# Altium footprint library ESC.PcbLib: 14 footprints
Each footprint in its own frame and in the unit in brackets; x right, y up, seen from the top. Pads: shape width x height; smd on the part's side, far side on the other; paste and mask are expansions set on the pad; w line width, h text height; cw(c..) or ccw(c..) is an arc to the next point about the centre after c.
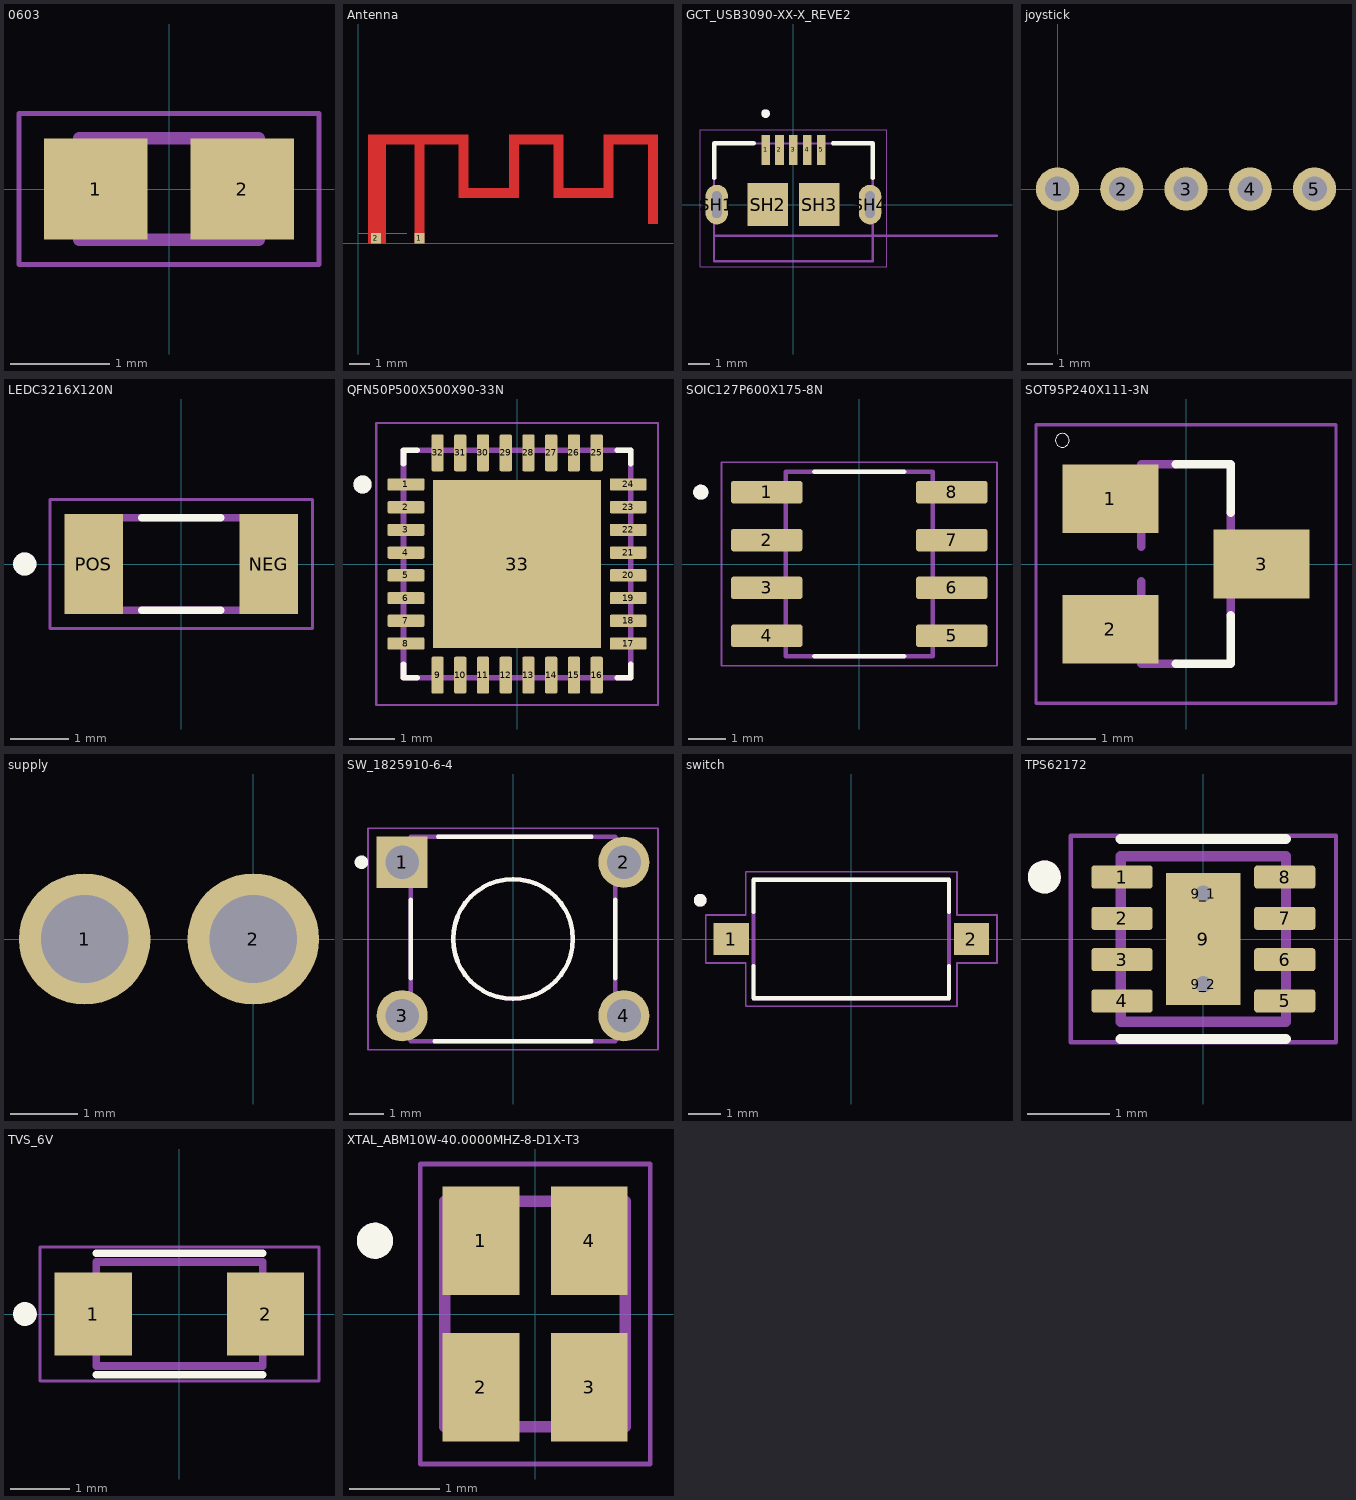
[diagram p0: the footprints below, top view; thin cyan lines are the x and y axes]

## 0603 [mm]
pads (2):
  rect 1.04x1.02 smd: 1(-0.735,0) 2(0.735,0)
Mechanical 13:
  lines w0.127: -0.9,-0.51 -0.9,0.51 0.9,0.51 0.9,-0.51 -0.9,-0.51
Mechanical 15:
  lines w0.05: -1.508,-0.761 -1.508,0.761 1.508,0.761 1.508,-0.761 -1.508,-0.761
3D body "step_temp.STEP": height 0.55, standoff 0, extent -0.8,-0.4 0.8,0.4

## Antenna [mm]
pads (2):
  rect 0.5x0.5 smd paste-2539.97 mask+0.102: 1(3.048,0.254) 2(0.889,0.254)
Top Layer:
  rectangle: 7.5,4.9 10.2,5.4
  rectangle: 0.5,4.9 5.5,5.4
  rectangle: 14.4,0.96 14.9,5.08
  rectangle: 12.2,4.9 14.9,5.4
  rectangle: 12.2,2.26 12.7,5.08
  rectangle: 10.16,2.26 12.446,2.76
  rectangle: 9.7,2.26 10.2,5.08
  rectangle: 7.5,2.26 8,4.953
  rectangle: 5,2.26 5.5,5.08
  rectangle: 2.8,0 3.3,4.953
  rectangle: 0.5,0 1.4,5.08
  rectangle: 5.461,2.26 7.62,2.76
Mechanical 1:
  lines w0.051: 0,0.5 2.413,0.5
  text "gnd" at -0.432,0.669 h0.25

## GCT_USB3090-XX-X_REVE2 [mm]
height 2.71
pads (9):
  rect 0.4x1.4 smd: 1(-1.3,2.55) 2(-0.65,2.55) 3(0,2.55) 4(0.65,2.55) 5(1.3,2.55)
  oval 1.05x1.85 hole 0.45 slot 1.25 at 90 deg: SH1(-3.575,0) SH4(3.575,0)
  rect 1.9x2 smd: SH2(-1.2,0) SH3(1.2,0)
Top Overlay:
  circle w0.2: c-1.3,4.25 r0.1
  lines w0.2: -3.7,1.245 -3.7,2.86 -1.85,2.86 ; 1.85,2.86 3.7,2.86 3.7,1.245
Mechanical 13:
  circle w0.2: c-1.3,4.25 r0.1
  lines w0.1: 9.5,-1.45 -3.7,-1.45 ; -3.7,-1.45 -3.7,2.86 3.7,2.86 3.7,-2.64 -3.7,-2.64 -3.7,-1.45
  text "PCB Edge" at 5.095,-1.04 h0.67
Mechanical 15:
  lines w0.05: -4.35,-2.89 4.35,-2.89 4.35,3.5 -4.35,3.5 -4.35,-2.89
3D body "step_temp.STEP": height 2.71, standoff -1, extent -3.9,-2.64 3.9,2.86

## joystick [mm]
pads (5):
  round 1.7 hole 1: 1(0,0) 2(2.54,0) 3(5.08,0) 4(7.62,0) 5(10.16,0)

## LEDC3216X120N [mm]
height 1.2
pads (2):
  rect 1.01x1.73 smd: NEG(1.51,0) POS(-1.51,0)
Top Overlay:
  circle w0.2: c-2.7,0 r0.1
  lines w0.127: -0.685,-0.8 0.685,-0.8 ; -0.685,0.8 0.685,0.8
Mechanical 13:
  circle w0.2: c-2.7,0 r0.1
  lines w0.127: -1.6,-0.8 -1.6,0.8 1.6,0.8 1.6,-0.8 -1.6,-0.8
Mechanical 15:
  lines w0.05: -2.265,-1.115 -2.265,1.115 2.265,1.115 2.265,-1.115 -2.265,-1.115
3D body "step_temp.STEP": height 1.2, standoff 0, extent -1.6,-0.8 1.6,0.8

## QFN50P500X500X90-33N [mm]
height 0.9
pads (33):
  rrect25% 0.81x0.27 smd mask+0: 1(-2.445,1.75) 2(-2.445,1.25) 3(-2.445,0.75) 4(-2.445,0.25) 5(-2.445,-0.25) 6(-2.445,-0.75) 7(-2.445,-1.25) 8(-2.445,-1.75) 17(2.445,-1.75) 18(2.445,-1.25) 19(2.445,-0.75) 20(2.445,-0.25) 21(2.445,0.25) 22(2.445,0.75) 23(2.445,1.25) 24(2.445,1.75)
  rrect25% 0.27x0.81 smd mask+0: 9(-1.75,-2.445) 10(-1.25,-2.445) 11(-0.75,-2.445) 12(-0.25,-2.445) 13(0.25,-2.445) 14(0.75,-2.445) 15(1.25,-2.445) 16(1.75,-2.445) 25(1.75,2.445) 26(1.25,2.445) 27(0.75,2.445) 28(0.25,2.445) 29(-0.25,2.445) 30(-0.75,2.445) 31(-1.25,2.445) 32(-1.75,2.445)
  rect 3.7x3.7 smd paste-0.68 mask+0.05: 33(0,0)
Top Overlay:
  circle w0.2: c-3.4,1.75 r0.1
  lines w0.127: -2.5,-2.205 -2.5,-2.5 -2.205,-2.5 ; -2.5,2.205 -2.5,2.5 -2.205,2.5 ; 2.205,-2.5 2.5,-2.5 2.5,-2.205 ; 2.205,2.5 2.5,2.5 2.5,2.205
Top Solder:
  drawing of 32 lines, arcs and shapes, not listed
Mechanical 13:
  circle w0.2: c-3.4,1.75 r0.1
  lines w0.127: -2.5,-2.5 -2.5,2.5 2.5,2.5 2.5,-2.5 -2.5,-2.5
Mechanical 15:
  lines w0.05: -3.1,-3.1 -3.1,3.1 3.1,3.1 3.1,-3.1 -3.1,-3.1
3D body "step_temp.STEP": height 0.9, standoff 0, extent -2.5,-2.5 2.5,2.5

## SOIC127P600X175-8N [mm]
pads (8):
  rrect25% 1.9x0.6 smd: 1(-2.455,1.905) 2(-2.455,0.635) 3(-2.455,-0.635) 4(-2.455,-1.905) 5(2.455,-1.905) 6(2.455,-0.635) 7(2.455,0.635) 8(2.455,1.905)
Top Overlay:
  circle w0.2: c-4.205,1.905 r0.1
  lines w0.127: -1.185,-2.45 1.185,-2.45 ; -1.185,2.45 1.185,2.45
Mechanical 13:
  circle w0.2: c-4.205,1.905 r0.1
  lines w0.127: -1.95,-2.45 -1.95,2.45 1.95,2.45 1.95,-2.45 -1.95,-2.45
Mechanical 15:
  lines w0.05: -3.655,-2.7 3.655,-2.7 3.655,2.7 -3.655,2.7 -3.655,-2.7

## SOT95P240X111-3N [mm]
pads (3):
  rect 1.4x1 smd: 1(-1.1,0.95) 2(-1.1,-0.95) 3(1.1,0)
Top Overlay:
  circle w0: c-1.8,1.8 r0.1
  lines w0.127: -0.15,-1.45 0.65,-1.45 0.65,-0.75 ; -0.15,1.45 0.65,1.45 0.65,0.75
Mechanical 13:
  region: 1.296,-0.228 0.711,-0.228 0.711,0.228 1.296,0.228
  region: -0.711,-1.169 -1.296,-1.169 -1.296,-0.711 -0.711,-0.711
  region: -0.713,0.711 -1.296,0.711 -1.296,1.17 -0.713,1.17
  lines w0.127: -0.65,-0.25 -0.65,-1.45 -0.15,-1.45 ; -0.65,0.25 -0.65,1.45 -0.15,1.45 ; 0.65,-0.75 0.65,0.75
Mechanical 15:
  lines w0.051: -2.183,-2.023 -2.183,2.023 2.183,2.023 2.183,-2.023 -2.183,-2.023
3D body "step_temp.STEP": height 1.11, standoff 0, extent -1.2,-1.45 1.2,1.45

## supply [mm]
pads (2):
  round 1.95 hole 1.3: 1(-2.5,0) 2(0,0)

## SW_1825910-6-4 [mm]
pads (4):
  rect 1.498x1.498 / inner round 1.498 / far side rect 1.498x1.498 hole 0.99: 1(-3.25,2.25)
  round 1.498 hole 0.99: 2(3.25,2.25) 3(-3.25,-2.25) 4(3.25,-2.25)
Top Overlay:
  circle w0.2: c-4.445,2.25 r0.1
  circle w0.127: c0,0 r1.755
  lines w0.127: -2.995,-1.15 -2.995,1.15 ; -2.3,-2.995 2.3,-2.995 ; -2.2,2.995 2.3,2.995 ; 3,-1.15 3,1.15
Mechanical 13:
  circle w0.127: c0,0 r1.755
  lines w0.127: -2.995,-2.995 2.995,-2.995 2.995,2.995 -2.995,2.995 -2.995,-2.995
Mechanical 15:
  lines w0.05: -4.25,-3.25 4.25,-3.25 4.25,3.25 -4.25,3.25 -4.25,-3.25
3D body "step_temp.STEP": height 5.01, standoff -3.51, extent -2.995,-3.9 2.995,3.898

## switch [mm]
height 2.5
pads (2):
  rect 1.1x1 smd: 1(-3.75,0) 2(3.75,0)
Top Overlay:
  circle w0.2: c-4.72,1.21 r0.1
  lines w0.127: -3.05,-0.85 -3.05,-1.85 3.05,-1.85 3.05,-0.85 ; -3.05,0.85 -3.05,1.85 3.05,1.85 3.05,0.85
Mechanical 13:
  circle w0.2: c-4.72,1.21 r0.1
  lines w0.127: -3.05,-1.85 3.05,-1.85 3.05,1.85 -3.05,1.85 -3.05,-1.85
Mechanical 15:
  lines w0.05: -4.55,-0.75 -4.55,0.75 -3.3,0.75 -3.3,2.1 3.3,2.1 3.3,0.75 4.55,0.75 4.55,-0.75 3.3,-0.75 3.3,-2.1 -3.3,-2.1 -3.3,-0.75 -4.55,-0.75
3D body "step_temp.STEP": height 2.5, standoff -0.05, extent -4.05,-1.85 4.05,1.85

## TPS62172 [mm]
pads (11):
  rrect25% 0.74x0.28 smd paste+0 mask+0.102: 1(-0.985,0.75) 2(-0.985,0.25) 3(-0.985,-0.25) 4(-0.985,-0.75) 5(0.985,-0.75) 6(0.985,-0.25) 7(0.985,0.25) 8(0.985,0.75)
  rect 0.9x1.6 smd paste-2 mask+0.102: 9(0,0)
  round 0.4 hole 0.2 mask+0: 9_1(0,0.55) 9_2(0,-0.55)
Top Overlay:
  circle w0.2: c-1.925,0.75 r0.1
  lines w0.127: -1,-1.21 1,-1.21 ; -1,1.21 1,1.21
Top Paste:
  region: 0.28,-0.51 -0.28,-0.51 -0.28,0.51 0.28,0.51
Mechanical 13:
  circle w0.2: c-1.925,0.75 r0.1
  lines w0.127: -1,-1 -1,1 1,1 1,-1 -1,-1
Mechanical 15:
  lines w0.05: -1.605,-1.25 -1.605,1.25 1.605,1.25 1.605,-1.25 -1.605,-1.25
3D body "step_temp.STEP": height 0.8, standoff 0, extent -1,-1 1,1

## TVS_6V [mm]
height 1.1
pads (2):
  rect 1.3x1.4 smd paste+0 mask+0.102: 1(-1.45,0) 2(1.45,0)
Top Overlay:
  circle w0.2: c-2.6,0 r0.1
  lines w0.127: -1.4,-1.02 1.4,-1.02 ; -1.4,1.02 1.4,1.02
Mechanical 13:
  circle w0.2: c-2.6,0 r0.1
  lines w0.127: -1.4,-0.875 1.4,-0.875 1.4,0.875 -1.4,0.875 -1.4,-0.875
Mechanical 15:
  lines w0.05: -2.35,-1.125 2.35,-1.125 2.35,1.125 -2.35,1.125 -2.35,-1.125
3D body "step_temp.STEP": height 1, standoff -0.1, extent -1.778,-0.748 1.872,1.002

## XTAL_ABM10W-40.0000MHZ-8-D1X-T3 [mm]
height 0.6
pads (4):
  rect 0.85x1.2 smd: 1(-0.6,0.812) 2(-0.6,-0.812) 3(0.6,-0.812) 4(0.6,0.812)
Top Overlay:
  circle w0.2: c-1.775,0.812 r0.1
Mechanical 13:
  circle w0.2: c-1.775,0.812 r0.1
  lines w0.127: -1,-1.25 -1,1.25 1,1.25 1,-1.25 -1,-1.25
Mechanical 15:
  lines w0.05: -1.275,-1.663 -1.275,1.663 1.275,1.663 1.275,-1.663 -1.275,-1.663
3D body "step_temp.STEP": height 0.6, standoff 0, extent -1.25,-1 1.25,1